# EAGLE library part TPS561208DDCR (library TPS561208DDCR)
4.5V to 17V Input, 2A Output, Synchronous SWIFT Step-Down Converter Source: Datasheet <http://www.ti.com/lit/gpn/tps561208>
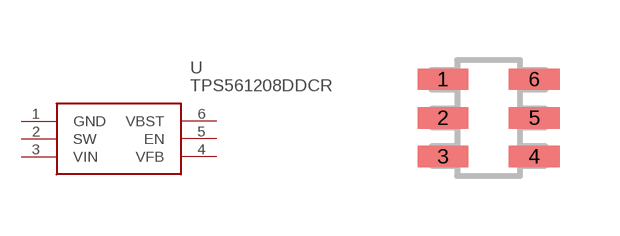
[diagram p0: symbol with the pads of SOT95P285X120-6N; footprint SOT95P285X120-6N]

Designator prefix U

## TPS561208DDCR  [SOT95P285X120-6N]
1  GND
2  SW
3  VIN
4  VFB
5  EN
6  VBST

## Footprint SOT95P285X120-6N (pad centres in mm)
smd 1.27 x 0.533: 1 -1.143,0.965; 2 -1.143,0; 3 -1.143,-0.965; 4 1.143,-0.965; 5 1.143,0; 6 1.143,0.965